# Altium footprint library 524651071.PcbLib: 1 footprints
Each footprint in its own frame and in the unit in brackets; x right, y up, seen from the top. Pads: shape width x height; smd on the part's side, far side on the other; paste and mask are expansions set on the pad; w line width, h text height; cw(c..) or ccw(c..) is an arc to the next point about the centre after c.
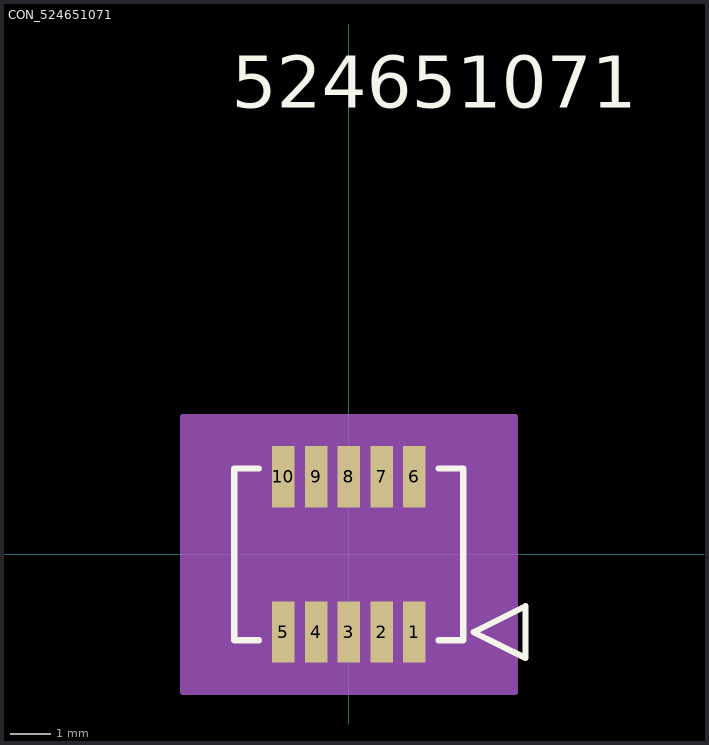
[diagram p0: the footprint, top view; thin cyan lines are the x and y axes]

## CON_524651071 [mm]
pads (10):
  rect 0.55x1.5 smd paste+0 mask+0.025: 1(1.6,-1.9) 2(0.8,-1.9) 3(0,-1.9) 4(-0.8,-1.9) 5(-1.6,-1.9) 6(1.6,1.9) 7(0.8,1.9) 8(0,1.9) 9(-0.8,1.9) 10(-1.6,1.9)
Top Overlay:
  lines w0.152: -2.195,-2.1 -2.8,-2.1 -2.8,2.1 -2.195,2.1 ; 2.195,-2.1 2.8,-2.1 2.8,2.1 2.195,2.1 ; 3.054,-1.9 4.324,-1.265 4.324,-2.535 3.054,-1.9
  text "524651071" at -2.857,10.922 h1.27
Mechanical 13:
  lines w0.127: -1.875,1.6 -1.875,1.6 ; -1.875,1.6 -1.875,2.1 1.875,2.1 1.875,1.6 2.8,1.6 2.8,-0.85 2.05,-1.6 1.875,-1.6 1.875,-2.1 -1.875,-2.1 -1.875,-1.6 -2.8,-1.6 -2.8,1.6 -1.875,1.6 ; 3.054,-1.9 4.324,-1.265 4.324,-2.535 3.054,-1.9
  text "524651071" at -2.857,10.922 h1.27
Mechanical 15:
  region: 4.07,3.37 -4.07,3.37 -4.07,-3.37 4.07,-3.37
  lines w0.127: -4.07,-3.37 -4.07,3.37 4.07,3.37 4.07,-3.37 -4.07,-3.37